# EAGLE library part IRL6342PBF (library International_Rectifier_By_element14_Batch_1)
HEXFETPower MOSFET
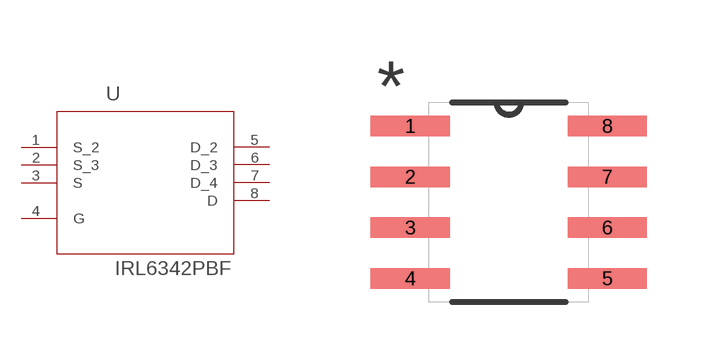
[diagram p85: symbol with the pads of SOIC127P600X175-8N; footprint SOIC127P600X175-8N]

Designator prefix U

## IRL6342PBF (MPN: IRL6342PBF; OC_FARNELL: 1890091; OC_NEWARK: 25T5535; PACKAGE: SOIC-8; SUPPLIER: INTERNATIONALRECTIFIER)  [SOIC127P600X175-8N]
1  S_2  pas
2  S_3  pas
3  S  pas
4  G  pas
5  D_2  pas
6  D_3  pas
7  D_4  pas
8  D  pas

## Footprint SOIC127P600X175-8N (pad centres in mm)
smd 1.981 x 0.508: 1 -2.464,1.905; 2 -2.464,0.635; 3 -2.464,-0.635; 4 -2.464,-1.905; 5 2.464,-1.905; 6 2.464,-0.635; 7 2.464,0.635; 8 2.464,1.905